# Altium schematic symbol library TMP236A4DCKT.SchLib: 1 symbol
Pins are listed as number, name and electrical type; pins without a type are passive.

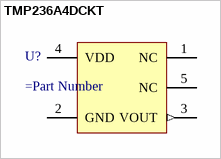
[diagram p0: symbol TMP236A4DCKT]

## TMP236A4DCKT
designator U?
=Description
footprint SOT65P210X110-5N
pins: 1 NC, 2 GND (power), 3 VOUT (out), 4 VDD (power), 5 NC